# EAGLE library part PCA9261 (library wheat)
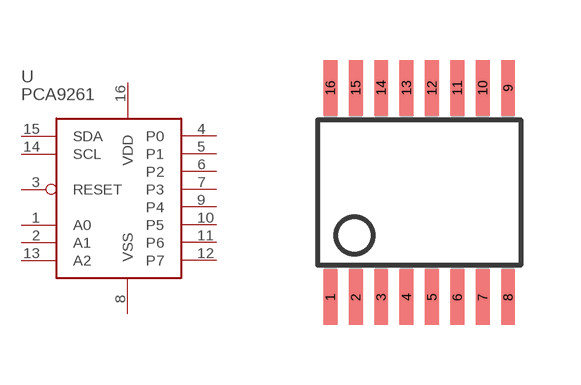
[diagram p179: symbol with the pads of TSSOP16; footprint TSSOP16]

Designator prefix U

## PCA9261PW  [TSSOP16]
1  A0  in
2  A1  in
3  RESET  in
4  P0  oc
5  P1  oc
6  P2  oc
7  P3  oc
8  VSS  pas
9  P4  oc
10  P5  oc
11  P6  oc
12  P7  oc
13  A2  in
14  SCL
15  SDA
16  VDD  pas

## Footprint TSSOP16 (pad centres in mm)
TSSOP16 0.65 pitch
smd 0.348 x 1.397: 1 -2.223,-2.619; 2 -1.588,-2.62; 3 -0.953,-2.62; 4 -0.318,-2.62; 5 0.318,-2.62; 6 0.953,-2.62; 7 1.588,-2.62; 8 2.223,-2.62; 9 2.223,2.62; 10 1.588,2.62; 11 0.953,2.62; 12 0.318,2.62; 13 -0.318,2.62; 14 -0.953,2.62; 15 -1.588,2.62; 16 -2.223,2.62